# Altium schematic symbol library SSQ-126-04-G-D.SchLib: 1 symbol
Pins are listed as number, name and electrical type; pins without a type are passive.

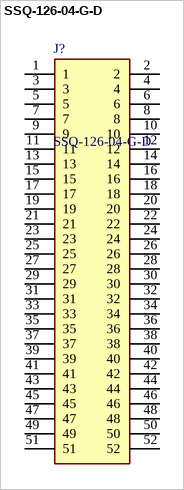
[diagram p0: symbol SSQ-126-04-G-D]

## SSQ-126-04-G-D
designator J?
52 Position Receptacle Connector 0.100" (2.54mm) Through Hole Gold; Manufacturer_Name: SAMTEC; Geometry.Height: 8.64mm; Mouser Part Number: 200-SSQ12604GD; Mouser Price/Stock: https://www.mouser.com/Search/Refine.aspx?Keyword=200-SSQ12604GD; Manufacturer_Part_Number: SSQ-126-04-G-D; Datasheet Link: https://componentsearchengine.com/Datasheets/1/SSQ-126-04-G-D.pdf
footprint RHDR52W64P254_2X26_6655X495X864P
pins: 1, 2, 3, 4, 5, 6, 7, 8, 9, 10, 11, 12, 13, 14, 15, 16, 17, 18, 19, 20, 21, 22, 23, 24, 25, 26, 27, 28, 29, 30, 31, 32, 33, 34, 35, 36, 37, 38, 39, 40, 41, 42, 43, 44, 45, 46, 47, 48, 49, 50, 51, 52